# Altium schematic symbol library MPU-6050.SchLib: 1 symbol
Pins are listed as number, name and electrical type; pins without a type are passive.

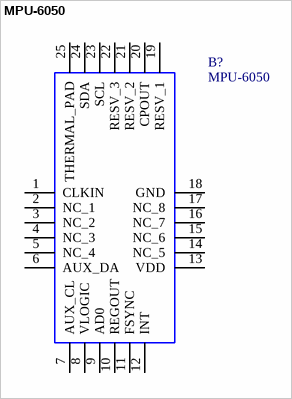
[diagram p0: symbol MPU-6050]

## MPU-6050
designator B?
Gyro & Accelerometer 6 Axis I2C,MEMs InvenSense MPU-6050 6-Axis Motion Sensor Module; Geometry.Height: 0.95mm; Manufacturer_Name: INVENSENSE; Manufacturer_Part_Number: MPU-6050; RS Part Number: 8837948P; RS Price/Stock: http://uk.rs-online.com/web/p/products/8837948P; Arrow Part Number: MPU-6050; Arrow Price/Stock: http://uk.rs-online.com/web/p/products/8837948P; Datasheet Link: http://store.invensense.com/datasheets/invensense/MPU-6050_DataSheet_V3%204.pdf
footprint QFN50P400X400X95-25N
pins: 1 CLKIN, 2 NC_1, 3 NC_2, 4 NC_3, 5 NC_4, 6 AUX_DA, 7 AUX_CL, 8 VLOGIC, 9 AD0, 10 REGOUT, 11 FSYNC, 12 INT, 13 VDD, 14 NC_5, 15 NC_6, 16 NC_7, 17 NC_8, 18 GND, 19 RESV_1, 20 CPOUT, 21 RESV_2, 22 RESV_3, 23 SCL, 24 SDA, 25 THERMAL_PAD